# Altium schematic symbol library YIS370.SchLib: 1 symbol
Pins are listed as number, name and electrical type; pins without a type are passive.

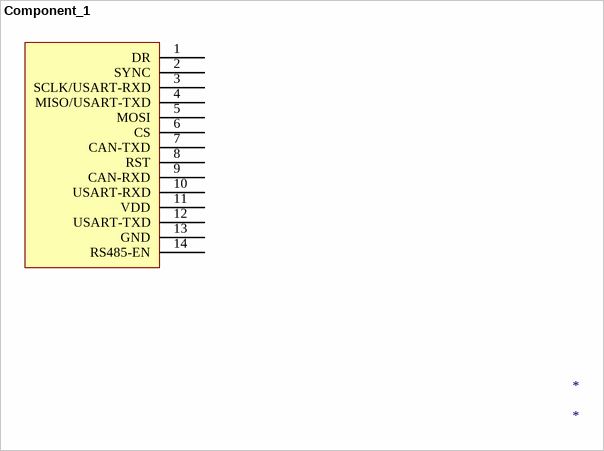
[diagram p0: symbol Component_1]

## Component_1
designator *
pins: 1 DR, 2 SYNC, 3 SCLK/USART-RXD, 4 MISO/USART-TXD, 5 MOSI, 6 CS, 7 CAN-TXD, 8 RST, 9 CAN-RXD, 10 USART-RXD, 11 VDD, 12 USART-TXD, 13 GND, 14 RS485-EN